# EAGLE library part MC33035DWR2G (library KylePile)
Brushless DC Motor Controller, http://www.digikey.com/product-detail/en/on-semiconductor/MC33035DWR2G/MC33035DWR2GOSCT-ND/1139686
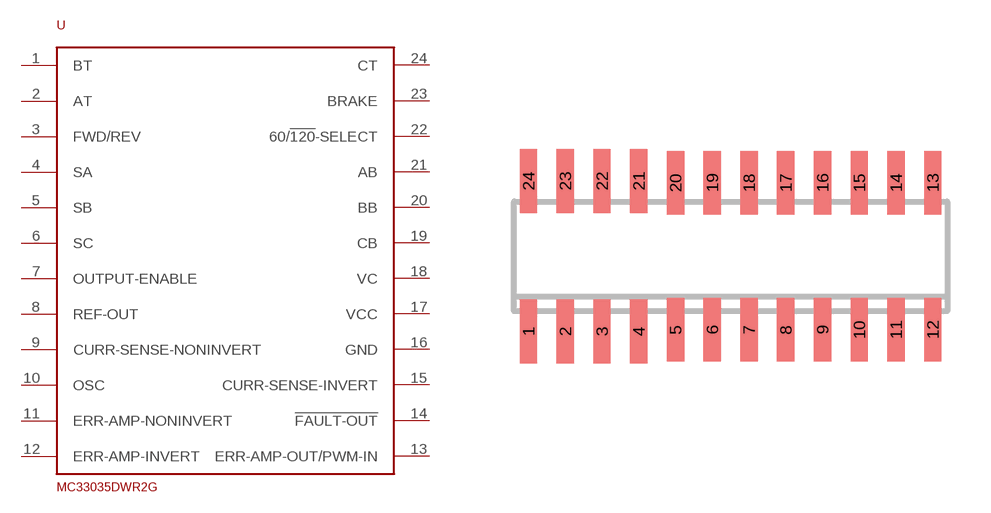
[diagram p28: symbol with the pads of SOIC-24; footprint SOIC-24]

Designator prefix -

## MC33035DWR2G  [SOIC-24]
1  BT
2  AT
3  FWD/REV
4  SA
5  SB
6  SC
7  OUTPUT-ENABLE
8  REF-OUT
9  CURR-SENSE-NONINVERT
10  OSC
11  ERR-AMP-NONINVERT
12  ERR-AMP-INVERT
13  ERR-AMP-OUT/PWM-IN
14  !FAULT-OUT
15  CURR-SENSE-INVERT
16  GND
17  VCC
18  VC
19  CB
20  BB
21  AB
22  60/!120!-SELECT
23  BRAKE
24  CT

## Footprint SOIC-24 (pad centres in mm)
smd 0.6 x 2.2: 1 -1.905,-2.6; 2 -0.635,-2.6; 3 0.635,-2.6; 4 1.905,-2.6; 5 3.175,-2.54; 6 4.445,-2.54; 7 5.715,-2.54; 8 6.985,-2.54; 9 8.255,-2.54; 10 9.525,-2.54; 11 10.795,-2.54; 12 12.065,-2.54; 13 12.065,2.54; 14 10.795,2.54; 15 9.525,2.54; 16 8.255,2.54; 17 6.985,2.54; 18 5.715,2.54; 19 4.445,2.54; 20 3.175,2.54; 21 1.905,2.6; 22 0.635,2.6; 23 -0.635,2.6; 24 -1.905,2.6